# Altium schematic symbol library Schlib.SchLib: 1 symbol
Pins are listed as number, name and electrical type; pins without a type are passive.

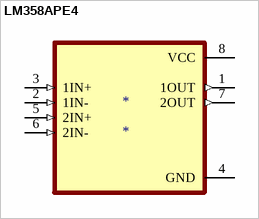
[diagram p0: symbol LM358APE4]

## LM358APE4
designator *
Operational Amplifier, 2 Func, 5000uV Offset-Max, BIPolar, PDIP8; Manufacturer: Texas Instruments; Manufacturer Part Number: LM358APE4; Package Body Material: Plastic; Architecture: VOLTAGE-FEEDBACK; Average Bias Current-Max (IIB): -200nA; Bias Current-Max (IIB) @25C: 100nA; Common-mode Reject Ratio-Nom: 80dB; Frequency Compensation: YES; Input Offset Voltage-Max: 5mV; Low-Offset: No; Channels: 2; Package Equivalence Code: DIP8,.3; Power Supplies: +-1.5/+-15/3/30V; Slew Rate: 0.3V/µs; Max Supply Current: 2mA; Supply Voltage Limit-Max: 32V; Nominal Supply Voltage: 5V; Surface Mount: No; Unity Gain BW-Nom: 700kHz; Voltage Gain-Min: 15000; Qualification Status: Not Qualified; Supplier: Arrow Electronics; Supplier Part Number: LM358APE4; RoHS: Yes; Category: Amplifiers - Op Amps, Buffer, Instrumentation; Pricing: 1000=0.1345, 2000=0.1331, 3000=0.1318, 4000=0.1305, 5000=0.1292, 6000=0.1279, 10000=0.1266, 20000=0.1253, 50000=0.1241 (USD); Case/Package: DIP; Pins: 8; Package Shape: Rectangular; Terminal Finish: Tin; Min Operating Temperature: 0°C; Max Operating Temperature: 70°C; JESD-609 Code: e3; Amplifier Type: OPERATIONAL AMPLIFIER; JESD-30 Code: R-PDIP-T8; Moisture Sensitivity Level: 1; Package Style: IN-LINEMeter; Packaging: Rail/Tube; Peak Reflow Temperature (Cel): 260°C; Technology: BIPOLAR; Terminal Form: Through Hole; Terminal Position: DUAL; Length: 9.59mm; Width: 7.62mm; Height - Seated (Max): 5.08mm; Terminal Pitch: 2.54mm; Temperature Grade: COMMERCIAL; Reach SVHC Compliant: Yes; RoHS Compliant: Yes; ComponentLink1URL: https://www.ti.com:443/lit/ds/symlink/lm158.pdf?src-supplier=IHS+Markit; ComponentLink1Description: https://www.ti.com:443/lit/ds/symlink/lm158.pdf?src-supplier=IHS+Markit; ComponentLink2URL: https://datasheet.ciiva.com/1811/lm358-1811016.pdf?src-supplier=Digikey; ComponentLink2Description: https://datasheet.ciiva.com/1811/lm358-1811016.pdf?src-supplier=Digikey
footprint DIP794W45P254L959H508Q8
pins: 1 1OUT (out), 2 1IN- (in), 3 1IN+ (in), 4 GND (power), 5 2IN+ (in), 6 2IN- (in), 7 2OUT (out), 8 VCC (power)